# EAGLE library part SUBD (library bytewerk-con)
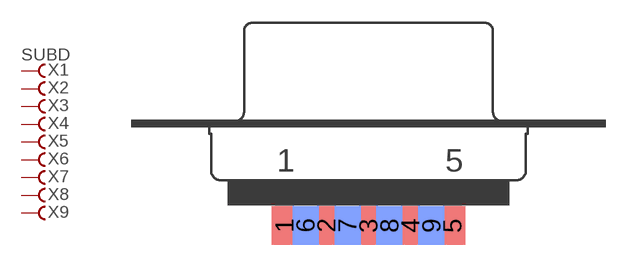
[diagram p6: symbol with the pads of SUBD9; footprint SUBD9]

Designator prefix X; gates 1=FV 2=F 3=F 4=F 5=F 6=F 7=F 8=F 9=F

## SUBD-F_H9  [SUBD9]
1  1:F  pas
2  2:F  pas
3  3:F  pas
4  4:F  pas
5  5:F  pas
6  6:F  pas
7  7:F  pas
8  8:F  pas
9  9:F  pas

## SUBD-M_H9  [SUBD9]
1  5:F  pas
2  4:F  pas
3  3:F  pas
4  2:F  pas
5  1:F  pas
6  9:F  pas
7  8:F  pas
8  7:F  pas
9  6:F  pas

## Footprint SUBD9 (pad centres in mm)
smd 1.7 x 2.5: 1 -5.486,-5.5; 2 -2.743,-5.5; 3 0,-5.5; 4 2.743,-5.5; 5 5.486,-5.5
smd 1.7 x 2.5 bottom: 6 -4.115,-5.5; 7 -1.372,-5.5; 8 1.372,-5.5; 9 4.115,-5.5